# Altium footprint library 400250.PcbLib: 30 footprints (part 1 of 2)
Each footprint in its own frame and in the unit in brackets; x right, y up, seen from the top. Pads: shape width x height; smd on the part's side, far side on the other; paste and mask are expansions set on the pad; w line width, h text height; cw(c..) or ccw(c..) is an arc to the next point about the centre after c.
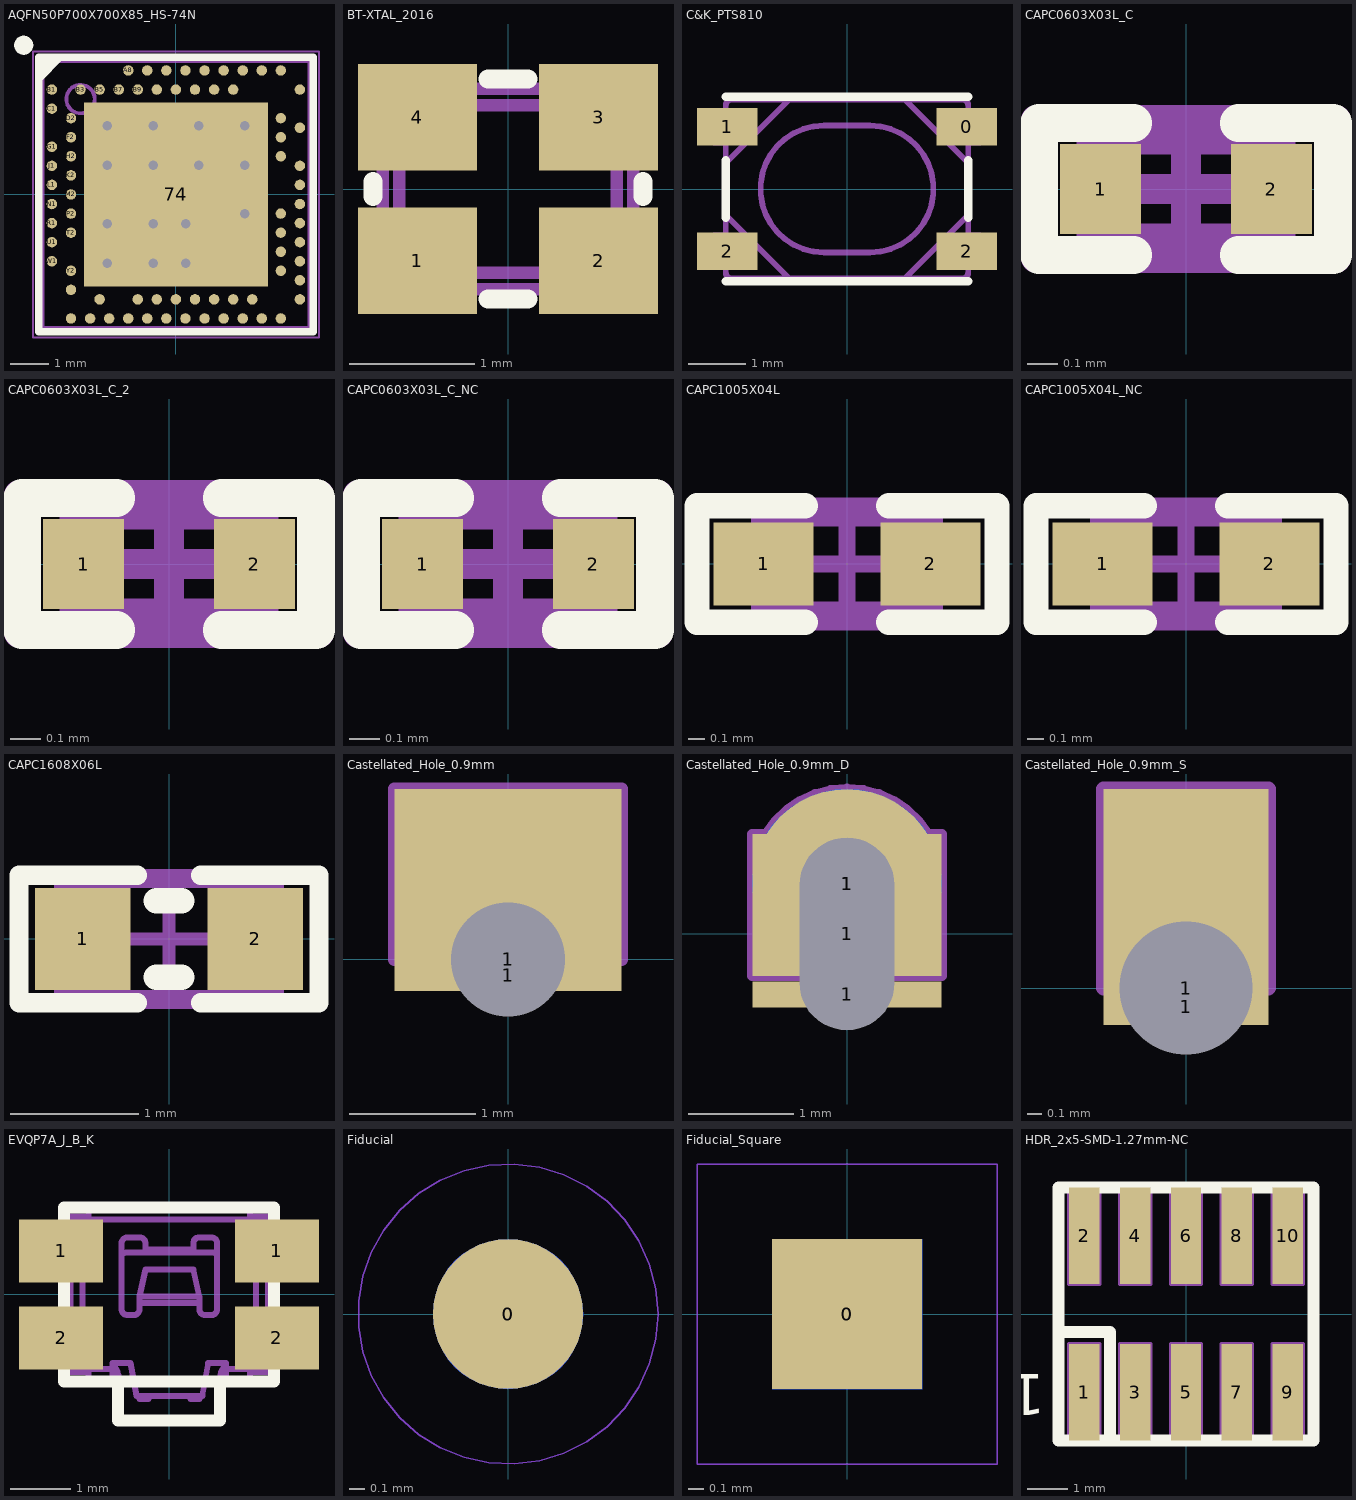
[diagram p0: the footprints below, top view; thin cyan lines are the x and y axes]

## AQFN50P700X700X85_HS-74N [mm]
pads (74):
  rect 4.83x4.83 smd mask+0.05: 74(0,0)
  round 0.275 smd paste+0.012 mask+0.05: A8(-1.25,3.25) A10(-0.75,3.25) A12(-0.25,3.25) A14(0.25,3.25) A16(0.75,3.25) A18(1.25,3.25) A20(1.75,3.25) A22(2.25,3.25) A23(2.75,3.25) AA24(3.25,-2.25) AB2(-2.75,-2.5) AC5(-2,-2.75) AC9(-1,-2.75) AC11(-0.5,-2.75) AC13(0,-2.75) AC15(0.5,-2.75) AC17(1,-2.75) AC19(1.5,-2.75) AC21(2,-2.75) AC24(3.25,-2.75) AD2(-2.75,-3.25) AD4(-2.25,-3.25) AD6(-1.75,-3.25) AD8(-1.25,-3.25) AD10(-0.75,-3.25) AD12(-0.25,-3.25) AD14(0.25,-3.25) AD16(0.75,-3.25) AD18(1.25,-3.25) AD20(1.75,-3.25) AD22(2.25,-3.25) AD23(2.75,-3.25) B1(-3.25,2.75) B3(-2.5,2.75) B5(-2,2.75) B7(-1.5,2.75) B9(-1,2.75) B11(-0.5,2.75) B13(0,2.75) B15(0.5,2.75) B17(1,2.75) B19(1.5,2.75) B24(3.25,2.75) C1(-3.25,2.25) D2(-2.75,2) D23(2.75,2) E24(3.25,1.75) F2(-2.75,1.5) F23(2.75,1.5) G1(-3.25,1.25) H2(-2.75,1) H23(2.75,1) J1(-3.25,0.75) J24(3.25,0.75) K2(-2.75,0.5) L1(-3.25,0.25) L24(3.25,0.25) M2(-2.75,0) N1(-3.25,-0.25) N24(3.25,-0.25) P2(-2.75,-0.5) P23(2.75,-0.5) R1(-3.25,-0.75) R24(3.25,-0.75) T2(-2.75,-1) T23(2.75,-1) U1(-3.25,-1.25) U24(3.25,-1.25) V23(2.75,-1.5) W1(-3.25,-1.75) W24(3.25,-1.75) Y2(-2.75,-2) Y23(2.75,-2)
via 1.8,-0.508 diameter 0.5 hole 0.25
via 0.254,-1.8 diameter 0.5 hole 0.25
via -0.6,-1.8 diameter 0.5 hole 0.25
via -1.8,-1.8 diameter 0.5 hole 0.25
via 0.254,-0.762 diameter 0.5 hole 0.25
via -0.6,-0.762 diameter 0.5 hole 0.25
via -1.8,-0.762 diameter 0.5 hole 0.25
via 1.8,0.762 diameter 0.5 hole 0.25
via 0.6,0.762 diameter 0.5 hole 0.25
via -0.6,0.762 diameter 0.5 hole 0.25
via -1.8,0.762 diameter 0.5 hole 0.25
via 1.8,1.8 diameter 0.5 hole 0.25
via 0.6,1.8 diameter 0.5 hole 0.25
via -0.6,1.8 diameter 0.5 hole 0.25
via -1.8,1.8 diameter 0.5 hole 0.25
Top Overlay:
  circle w0.25: c-3.988,3.912 r0.125
  region: -3,3.5 -3.5,3 -3.5,3.5
  lines w0.2: -3.6,-3.6 3.6,-3.6 3.6,3.6 -3.6,3.6 -3.6,-3.6
Mechanical 7:
  circle w0.1: c-2.5,2.5 r0.373
  lines w0.1: -3.5,-3.5 -3.5,3.5 3.5,3.5 3.5,-3.5 -3.5,-3.5
  text ".Designator" at 0.305,0.076 h0.3
Mechanical 15:
  lines w0.05: -3.75,-3.75 3.75,-3.75 3.75,3.75 -3.75,3.75 -3.75,-3.75
  lines w0.1: -0.5,0 0.5,0 ; 0,-0.5 0,0.5
3D body "LGA88C25P25X25_700X700X85.step": height 0.85, standoff 0, extent -3.55,-3.55 3.55,3.55

## BT-XTAL_2016 [mm]
pads (4):
  rect 0.95x0.85 smd: 1(-0.725,-0.575) 2(0.725,-0.575) 3(0.725,0.575) 4(-0.725,0.575)
Top Overlay:
  lines w0.152: -1.08,-0.06 -1.08,0.06 ; -0.16,-0.88 0.16,-0.88 ; -0.16,0.88 0.16,0.88 ; 1.08,-0.06 1.08,0.06
Mechanical 7:
  lines w0.1: -1,-0.7 cw(c-1,-0.8) -0.9,-0.8 0.9,-0.8 cw(c1,-0.8) 1,-0.7 1,0.7 cw(c1,0.8) 0.9,0.8 -0.9,0.8 cw(c-1,0.8) -1,0.7 -1,-0.7 ; -0.87,-0.57 ccw(c-0.77,-0.57) -0.77,-0.67 0.77,-0.67 ccw(c0.77,-0.57) 0.87,-0.57 0.87,0.57 ccw(c0.77,0.57) 0.77,0.67 -0.77,0.67 ccw(c-0.77,0.57) -0.87,0.57 -0.87,-0.57
  text ".Designator" at -0.7,-0.2 h0.38
3D body: height 0.56, standoff 0.15, extent -0.7,-0.65 0.7,0.65
3D body "User Library-GeyerElectronics_KX5.step": height 0.56, standoff 0, extent -1.05,-0.85 1.05,0.85

## C&K_PTS810 [mm]
pads (4):
  rect 1.05x0.65 smd: 0(2.075,1.075) 1(-2.075,1.075) 2(-2.075,-1.075) 2(2.075,-1.075)
Top Overlay:
  lines w0.15: -2.1,-1.6 2.1,-1.6 ; -2.1,-0.5 -2.1,0.5 ; -2.1,1.6 2.1,1.6 ; 2.1,-0.5 2.1,0.5
Mechanical 7:
  lines w0.1: -2.1,-1.35 -2.3,-1.35 -2.3,-0.8 -2.1,-0.8 ; -2.1,-0.45 -1,-1.55 ; -2.1,0.45 -1,1.55 ; -2.1,0.8 -2.3,0.8 -2.3,1.35 -2.1,1.35 ; 1,-1.55 2.1,-0.45 ; 1,1.55 2.1,0.45 ; 2.1,-1.35 2.3,-1.35 2.3,-0.8 2.1,-0.8 ; 2.1,0.8 2.3,0.8 2.3,1.35 2.1,1.35 ; -2.1,-1.45 ccw(c-2,-1.45) -2,-1.55 2,-1.55 ccw(c2,-1.45) 2.1,-1.45 2.1,1.45 ccw(c2,1.45) 2,1.55 -2,1.55 ccw(c-2,1.45) -2.1,1.45 -2.1,-1.45 ; -0.4,-1.1 cw(c-0.4,0) -0.4,1.1 0.4,1.1 cw(c0.4,0) 0.4,-1.1 -0.4,-1.1
  text ".Designator" at -0.381,-0.152 h0.3
3D body "Y97LT25BADBFP_-PTS810 SJ 250 SMTR.stp": height 2.5, standoff 0, extent -2.287,-1.6 2.288,1.6

## CAPC0603X03L_C [mm]
pads (2):
  rect 0.27x0.3 smd: 1(-0.285,0) 2(0.285,0)
Top Overlay:
  lines w0.125: -0.175,-0.22 -0.49,-0.22 -0.49,0.22 -0.175,0.22 ; 0.175,-0.22 0.49,-0.22 0.49,0.22 0.175,0.22
Mechanical 7:
  lines w0.1: -0.315,-0.165 -0.315,0.165 0.315,0.165 0.315,-0.165 -0.315,-0.165
  text ".Designator" at 1.219,0.152 h0.3
Mechanical 15:
  lines w0.1: -0.165,0 0.165,0 ; 0,-0.165 0,0.165 ; -0.5,-0.23 -0.5,0.23 0.5,0.23 0.5,-0.23 -0.5,-0.23
3D body "User Library-0201(0603M) Cap.step": height 0.3, standoff -0.01, extent -0.305,-0.152 0.305,0.153

## CAPC0603X03L_C_2 [mm]
pads (2):
  rect 0.27x0.3 smd: 1(-0.285,0) 2(0.285,0)
Top Overlay:
  lines w0.125: -0.175,-0.22 -0.49,-0.22 -0.49,0.22 -0.175,0.22 ; 0.175,-0.22 0.49,-0.22 0.49,0.22 0.175,0.22
Mechanical 7:
  lines w0.1: -0.315,-0.165 0.315,-0.165 0.315,0.165 -0.315,0.165 -0.315,-0.165
  text ".Designator" at -1.27,-0.178 h0.3
Mechanical 15:
  lines w0.1: -0.165,0 0.165,0 ; 0,-0.165 0,0.165 ; -0.5,-0.23 0.5,-0.23 0.5,0.23 -0.5,0.23 -0.5,-0.23
3D body "User Library-0201(0603M) Cap.step": height 0.3, standoff -0.01, extent -0.305,-0.152 0.305,0.153

## CAPC0603X03L_C_NC [mm]
pads (2):
  rect 0.27x0.3 smd mask+0.05: 1(-0.285,0) 2(0.285,0)
Top Overlay:
  lines w0.125: -0.175,-0.22 -0.49,-0.22 -0.49,0.22 -0.175,0.22 ; 0.175,-0.22 0.49,-0.22 0.49,0.22 0.175,0.22
Mechanical 7:
  lines w0.1: -0.315,-0.165 0.315,-0.165 0.315,0.165 -0.315,0.165 -0.315,-0.165
  text ".Designator" at -0.306,0.268 h0.3
Mechanical 15:
  lines w0.1: -0.165,0 0.165,0 ; 0,-0.165 0,0.165 ; -0.5,-0.23 0.5,-0.23 0.5,0.23 -0.5,0.23 -0.5,-0.23

## CAPC1005X04L [mm]
pads (2):
  rect 0.6x0.5 smd: 1(-0.5,0) 2(0.5,0)
Top Overlay:
  lines w0.152: -0.25,-0.35 -0.9,-0.35 -0.9,0.35 -0.25,0.35 ; 0.25,-0.35 0.9,-0.35 0.9,0.35 0.25,0.35
Mechanical 7:
  lines w0.1: -0.525,-0.275 -0.525,0.275 0.525,0.275 0.525,-0.275 -0.525,-0.275
  text ".Designator" at -0.406,-0.152 h0.3
Mechanical 15:
  lines w0.1: -0.275,0 0.275,0 ; 0,-0.275 0,0.275 ; -0.9,-0.35 0.9,-0.35 0.9,0.35 -0.9,0.35 -0.9,-0.35
3D body "User Library-0402(1005M) Cap.step": height 0.5, standoff -0.01, extent -0.508,-0.254 0.508,0.254

## CAPC1005X04L_NC [mm]
pads (2):
  rect 0.6x0.5 smd: 1(-0.5,0) 2(0.5,0)
Top Overlay:
  lines w0.152: -0.25,-0.35 -0.9,-0.35 -0.9,0.35 -0.25,0.35 ; 0.25,-0.35 0.9,-0.35 0.9,0.35 0.25,0.35
Mechanical 7:
  lines w0.1: -0.525,-0.275 -0.525,0.275 0.525,0.275 0.525,-0.275 -0.525,-0.275
  text ".Designator" at -0.432,-0.152 h0.3
Mechanical 15:
  lines w0.1: -0.275,0 0.275,0 ; 0,-0.275 0,0.275 ; -0.9,-0.35 0.9,-0.35 0.9,0.35 -0.9,0.35 -0.9,-0.35

## CAPC1608X06L [mm]
pads (2):
  rect 0.75x0.8 smd: 1(-0.675,0) 2(0.675,0)
Top Overlay:
  lines w0.152: -0.25,-0.5 -1.175,-0.5 -1.175,0.5 -0.25,0.5 ; 0.25,-0.5 1.175,-0.5 1.175,0.5 0.25,0.5
  lines w0.2: -0.1,-0.3 0.1,-0.3 ; -0.1,0.3 0.1,0.3
Mechanical 7:
  lines w0.1: -0.85,-0.45 -0.85,0.45 0.85,0.45 0.85,-0.45 -0.85,-0.45
  text ".Designator" at 0.392,0.152 h0.3
Mechanical 15:
  lines w0.1: -0.45,0 0.45,0 ; 0,-0.45 0,0.45 ; -1.175,-0.5 1.175,-0.5 1.175,0.5 -1.175,0.5 -1.175,-0.5
3D body "User Library-Chip Capacitor 0603.step": height 0.8, standoff 0, extent -0.8,-0.43 0.8,0.43

## Castellated_Hole_0.9mm [mm]
pads (2):
  rect 1.8x0.25 hole 0.25 square: 1(0,-0.126)
  rect 1.8x1.35 hole 0.9 copper offset 0,0.675: 1(0,0)
Mechanical 7:
  lines w0.1: -0.9,0 -0.45,0 cw(c0,0) 0.45,0 0.9,0 0.9,1.35 -0.9,1.35 -0.9,0
Mechanical 8:
  lines w0.1: -0.9,0 -0.9,1.35 0.9,1.35 0.9,0 0.45,0 ccw(c0,0) -0.45,0 -0.9,0

## Castellated_Hole_0.9mm_D [mm]
pads (4):
  rect 1.8x0.25 hole 0.25 square: 1(0,-0.576)
  rect 1.8x1.35 hole 0.9 slot 1.83 at 90 deg copper offset 0,0.275: 1(0,0)
  round 1.8 smd paste-5: 1(0,0.48)
  round 1.8 smd far side paste-5: 1(0,0.48)
Mechanical 7:
  lines w0.1: -0.77,0.95 -0.9,0.95 -0.9,-0.4 -0.45,-0.4 -0.45,0.465 cw(c0,0.465) 0.45,0.465 0.45,-0.4 0.9,-0.4 0.9,0.95 0.77,0.95 ; -0.768,0.949 cw(c0,0.48) 0.768,0.949
Mechanical 8:
  lines w0.1: -0.77,0.95 -0.9,0.95 -0.9,-0.4 -0.45,-0.4 -0.45,0.465 cw(c0,0.465) 0.45,0.465 0.45,-0.4 0.9,-0.4 0.9,0.95 0.77,0.95 ; -0.768,0.949 cw(c0,0.48) 0.768,0.949

## Castellated_Hole_0.9mm_S [mm]
pads (2):
  rect 1.118x0.25 hole 0.25 square: 1(0,-0.126)
  rect 1.118x1.35 hole 0.9 copper offset 0,0.675: 1(0,0)
Mechanical 7:
  lines w0.1: -0.559,0 -0.45,0 cw(c0,0) 0.45,0 0.559,0 0.559,1.35 -0.559,1.35 -0.559,0
Mechanical 8:
  lines w0.1: -0.559,0 -0.559,1.35 0.559,1.35 0.559,0 0.45,0 ccw(c0,0) -0.45,0 -0.559,0

## EVQP7A_J_B_K [mm]
pads (4):
  rect 1.4x1.05 smd: 1(-1.8,0.725) 1(1.8,0.725) 2(-1.8,-0.725) 2(1.8,-0.725)
Top Overlay:
  lines w0.2: -0.85,-1.45 -0.85,-2.1 0.85,-2.1 0.85,-1.45 ; -1.75,-1.45 -1.75,1.45 1.75,1.45 1.75,-1.45 -1.75,-1.45
Mechanical 7:
  drawing of 222 lines, arcs and shapes, not listed
3D body "User Library-EVQP7-JA-01P.step": height 1.35, standoff 0, extent -2.35,-2.1 2.35,1.45

## Fiducial [mm]
pads (2):
  round 1 smd paste+0 mask+0.5: 0(0,0)
  round 1 smd far side paste+0 mask+0.5: 0(0,0)
Top Layer keep-out:
  circle w0.01: c0,0 r1
Bottom Layer keep-out:
  circle w0.01: c0,0 r1

## Fiducial_Square [mm]
pads (2):
  rect 1x1 smd paste-10 mask+0.5: 0(0,0)
  rect 1x1 smd far side paste-10 mask+0.5: 0(0,0)
Top Layer keep-out:
  lines w0.01: -1,-1 1,-1 1,1 -1,1 -1,-1
Bottom Layer keep-out:
  lines w0.01: -1,-1 -1,1 1,1 1,-1 -1,-1

## HDR_2x5-SMD-1.27mm-NC [mm]
pads (10):
  rect 0.76x2.4 smd: 1(-2.54,-1.95) 2(-2.54,1.95) 3(-1.27,-1.95) 4(-1.27,1.95) 5(0,-1.95) 6(0,1.95) 7(1.27,-1.95) 8(1.27,1.95) 9(2.54,-1.95) 10(2.54,1.95)
Top Overlay:
  lines w0.3: -3.175,-0.45 -1.9,-0.45 -1.9,-3.15 ; -3.175,-3.15 -3.175,3.15 3.175,3.15 3.175,-3.15 -3.175,-3.15
  text "1" at -3.505,-1.499 h1.02
Mechanical 7:
  lines w0.1: -3.175,-3.15 -3.175,3.15 3.137,3.15 3.137,-3.15 -3.175,-3.15 ; -2.92,-3.15 -2.92,-0.75 -2.16,-0.75 -2.16,-3.15 -2.92,-3.15 ; -2.92,0.75 -2.92,3.15 -2.16,3.15 -2.16,0.75 -2.92,0.75 ; -1.65,-3.15 -1.65,-0.75 -0.89,-0.75 -0.89,-3.15 -1.65,-3.15 ; -1.65,0.75 -1.65,3.15 -0.89,3.15 -0.89,0.75 -1.65,0.75 ; -0.38,-3.15 -0.38,-0.75 0.38,-0.75 0.38,-3.15 -0.38,-3.15 ; -0.38,0.75 0.38,0.75 0.38,3.15 -0.38,3.15 -0.38,0.75 ; 0.89,-3.15 0.89,-0.75 1.65,-0.75 1.65,-3.15 0.89,-3.15 ; 0.89,0.75 0.89,3.15 1.65,3.15 1.65,0.75 0.89,0.75 ; 2.16,-3.15 2.16,-0.75 2.92,-0.75 2.92,-3.15 2.16,-3.15 ; 2.16,0.75 2.16,3.15 2.92,3.15 2.92,0.75 2.16,0.75
  text ".Designator" at 0.254,0.178 h0.3